# EAGLE library part IF_6PIN (library Connectors)
6-pin インターフェース
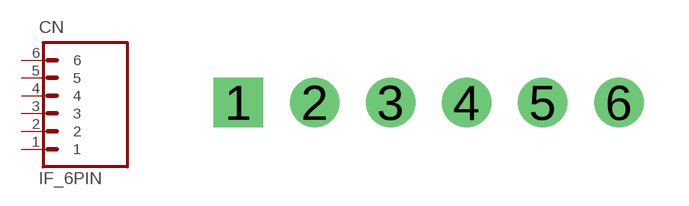
[diagram p10: symbol with the pads of HEADER_6PIN; footprint HEADER_6PIN]

Designator prefix CN

## IF_6PIN  [HEADER_6PIN]
1  1  pas
2  2  pas
3  3  pas
4  4  pas
5  5  pas
6  6  pas

## Footprint HEADER_6PIN (pad centres in mm)
drill 0.889 pad 1.651 square: 1 -6.35,0
drill 0.889 pad 1.651: 2 -3.81,0; 3 -1.27,0; 4 1.27,0; 5 3.81,0; 6 6.35,0